# EAGLE library part TEENSY-3.2-SIMPLE (library testLib)
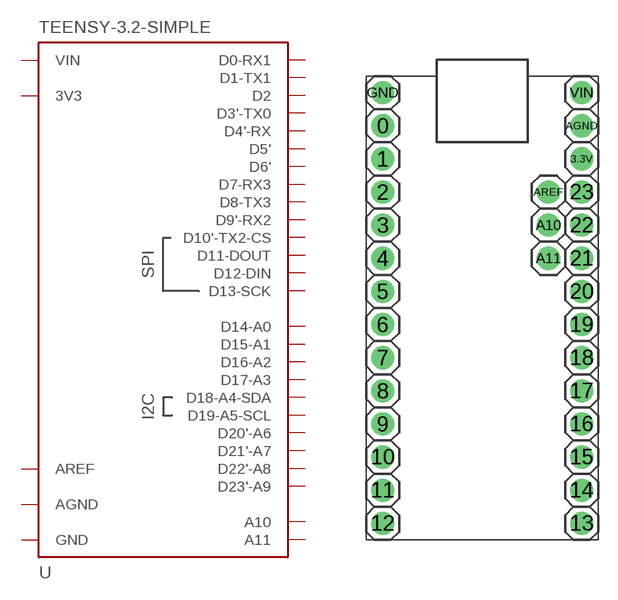
[diagram p8: symbol with the pads of TEENSY-3.2-SIMPLE; footprint TEENSY-3.2-SIMPLE]

Designator prefix U

## TEENSY-3.2-SIMPLE  [TEENSY-3.2-SIMPLE]
0  D0-RX1
1  D1-TX1
2  D2
3  D3'-TX0
3.3V  3V3  pwr
4  D4'-RX
5  D5'
6  D6'
7  D7-RX3
8  D8-TX3
9  D9'-RX2
10  D10'-TX2-CS
11  D11-DOUT
12  D12-DIN
13  D13-SCK
14  D14-A0
15  D15-A1
16  D16-A2
17  D17-A3
18  D18-A4-SDA
19  D19-A5-SCL
20  D20'-A6
21  D21'-A7
22  D22'-A8
23  D23'-A9
A10  A10
A11  A11
AGND  AGND  pwr
AREF  AREF  pwr
GND  GND  pwr
VIN  VIN  pwr

## Footprint TEENSY-3.2-SIMPLE (pad centres in mm)
drill 1.016 pad 1.778: 0 -7.62,13.97; 1 -7.62,11.43; 2 -7.62,8.89; 3 -7.62,6.35; 3.3V 7.62,11.43; 4 -7.62,3.81; 5 -7.62,1.27; 6 -7.62,-1.27; 7 -7.62,-3.81; 8 -7.62,-6.35; 9 -7.62,-8.89; 10 -7.62,-11.43; 11 -7.62,-13.97; 12 -7.62,-16.51; 13 7.62,-16.51; 14 7.62,-13.97; 15 7.62,-11.43; 16 7.62,-8.89; 17 7.62,-6.35; 18 7.62,-3.81; 19 7.62,-1.27; 20 7.62,1.27; 21 7.62,3.81; 22 7.62,6.35; 23 7.62,8.89; A10 5.08,6.35; A11 5.08,3.81; AGND 7.62,13.97; AREF 5.08,8.89; GND -7.62,16.51; VIN 7.62,16.51